# Altium footprint library transistor-power.PCBLIB: 89 footprints (part 2 of 6)
Each footprint in its own frame and in the unit in brackets; x right, y up, seen from the top. Pads: shape width x height; smd on the part's side, far side on the other; paste and mask are expansions set on the pad; w line width, h text height; cw(c..) or ccw(c..) is an arc to the next point about the centre after c.
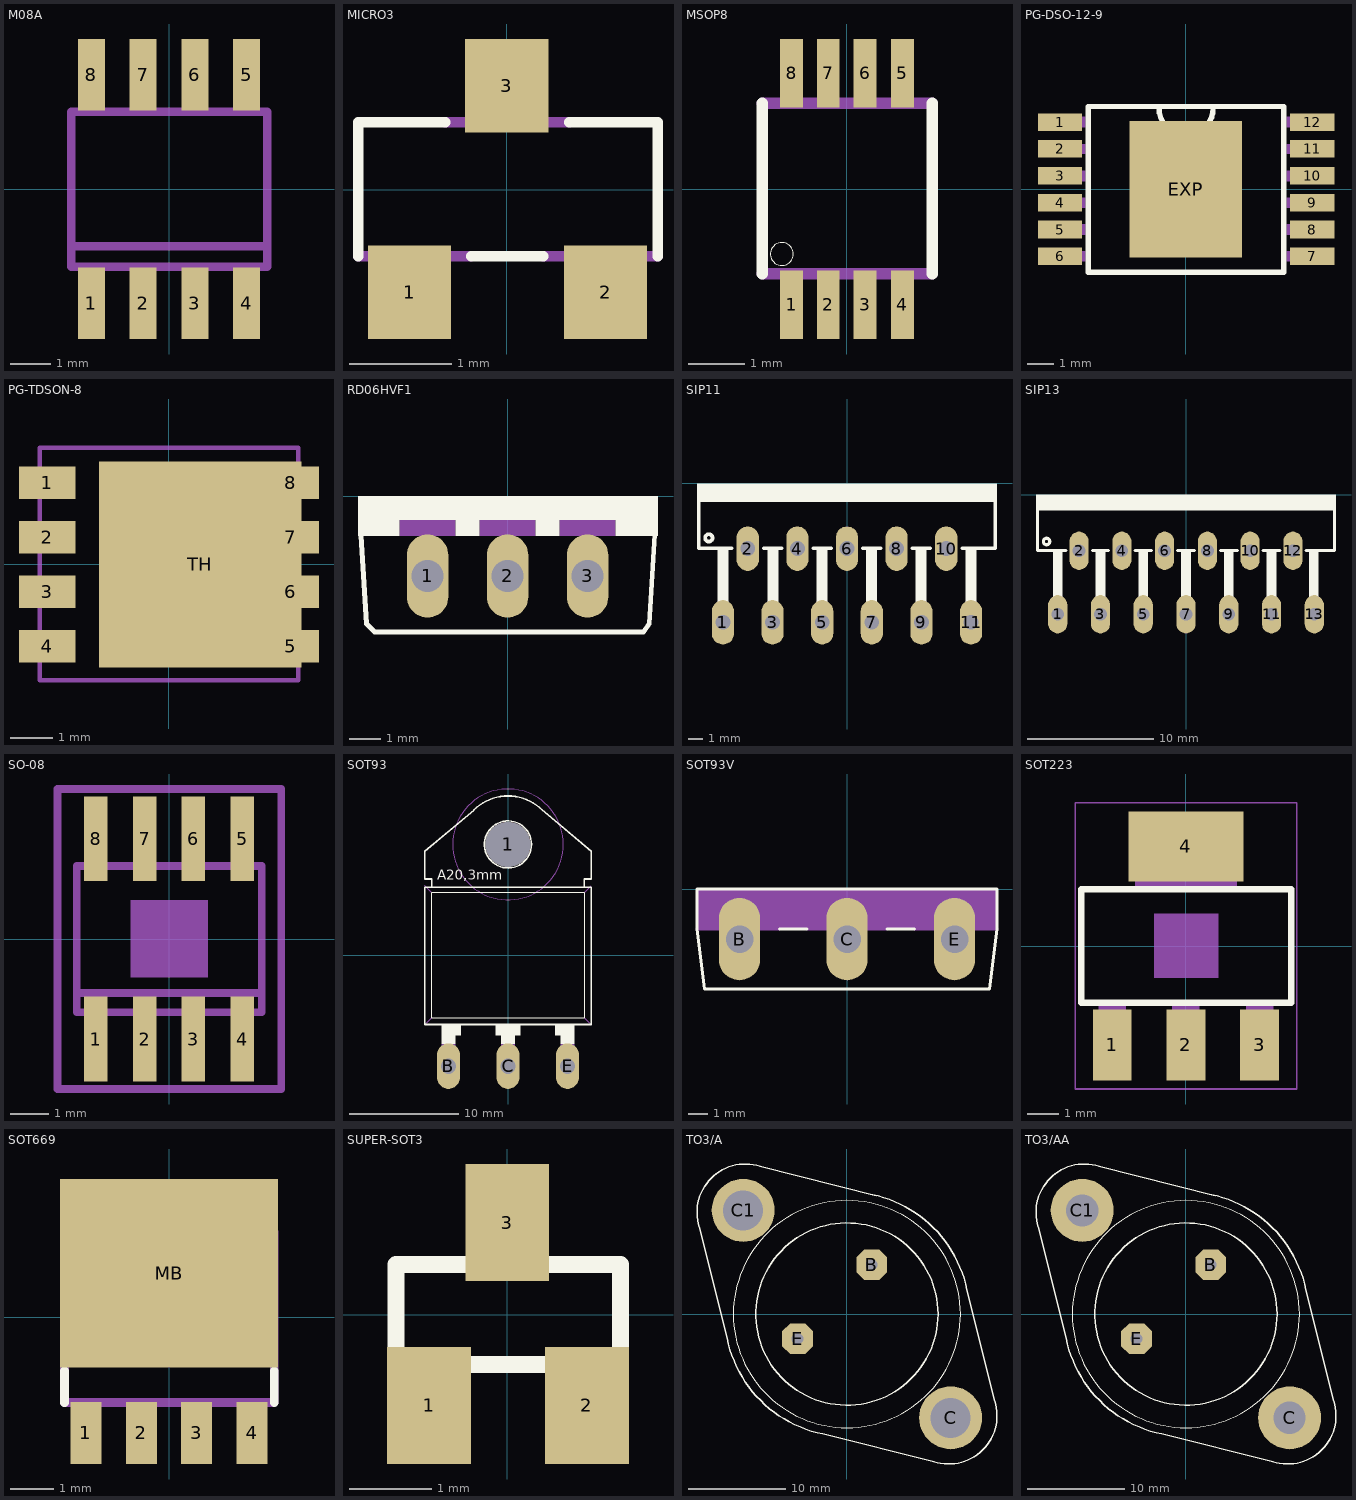
[diagram p1: the footprints below, top view; thin cyan lines are the x and y axes]

## M08A [mil]
pads (8):
  rect 26x69 smd: 1(-75,-110.24) 2(-25,-110.24) 3(25,-110.24) 4(75,-110.24) 5(75,111) 6(25,111) 7(-25,111) 8(-75,111)
Mechanical 16:
  rectangle: -84.65,-122.05 -65.35,-78.74
  rectangle: -34.65,-122.05 -15.35,-78.74
  rectangle: 16,-122.05 35,-78.74
  rectangle: 66,-122.05 85,-78.74
  rectangle: 66,79 85,123
  rectangle: 16,79 35,123
  rectangle: -34.65,79 -15.35,123
  rectangle: -84.65,79 -65.35,123
  lines w8: -94.49,-55.12 -94.49,-74.8 95,-74.8 95,-55.12 ; -94.49,-55.12 -94.49,75 95,75 95,-55.12 ; -94.49,-55.12 95,-55.12

## MICRO3 [mil]
pads (3):
  rect 32x36 smd: 1(-37.4,-39.37) 2(38,-39.37) 3(0,40)
Top Overlay:
  lines w4: -57.09,-25.59 -57.09,26 -23.62,26 ; -13.78,-25.59 14,-25.59 ; 24,26 58,26 58,-25.59
Mechanical 16:
  rectangle: -10.63,26 11,50
  rectangle: -48.03,-49.21 -26.77,-25.59
  rectangle: 27,-49.21 49,-25.2
  lines w4: -57.09,-25.59 -13.78,-25.59 ; -23.62,26 24,26 ; 14,-25.59 58,-25.59

## MSOP8 [mil]
pads (8):
  rect 16x48 smd: 1(-38.39,-80.71) 2(-12.8,-80.71) 3(13,-80.71) 4(39,-80.71) 5(39,81) 6(13,81) 7(-12.8,81) 8(-38.39,81)
Top Overlay:
  circle w0: c-45.28,-45.28 r8
  lines w8: -59.06,-59.06 -59.06,60 ; 60,-59.06 60,60
Mechanical 16:
  rectangle: -44.29,-96.46 -32.48,-61.02
  rectangle: -18.7,-96.46 -6.89,-61.02
  rectangle: 7,-96.46 19,-61.02
  rectangle: 33,-96.46 45,-61.02
  rectangle: 33,62 45,97
  rectangle: 7,62 19,97
  rectangle: -18.7,62 -6.89,97
  rectangle: -44.29,62 -32.48,97
  lines w8: -59.06,-59.06 60,-59.06 ; -59.06,60 60,60

## PG-DSO-12-9 [mil]
pads (13):
  rect 65x26 smd: 1(-185.04,99) 2(-185.04,60) 3(-185.04,20) 4(-185.04,-19.68) 5(-185.04,-59.06) 6(-185.04,-98.43) 7(186,-98.43) 8(186,-59.06) 9(186,-19.68) 10(186,20) 11(186,60) 12(186,99)
  rect 166x201 smd: EXP(0,0)
Top Layer:
  region: 0,0 10,0 10,10 0,10
Top Overlay:
  lines w8: -39.37,119 ccw(c0.32,119) 40,119 ; -143.64,-121.98 144,-121.98 144,122 -143.64,122 -143.64,-121.98
Bottom Paste:
  rectangle: -70.87,-86.61 71,87
  rectangle: -23.62,87 24,146
  rectangle: -23.62,-145.67 24,-86.61
Top Solder:
  rectangle: -86.61,-104.33 87,105
  rectangle: -35.43,-157.48 36,158
  rectangle: -220.47,83 -149.61,115
  rectangle: -220.47,44 -149.61,75
  rectangle: -220.47,4 -149.61,36
  rectangle: -220.47,-35.43 -149.61,-3.94
  rectangle: -220.47,-74.8 -149.61,-43.31
  rectangle: -220.47,-114.17 -149.61,-82.68
  region: 221,-82.68 150,-82.68 150,-114.17 221,-114.17
  region: 221,-43.31 150,-43.31 150,-74.8 221,-74.8
  region: 221,-3.94 150,-3.94 150,-35.43 221,-35.43
  region: 221,36 150,36 150,4 221,4
  region: 221,75 150,75 150,44 221,44
  region: 221,115 150,115 150,83 221,83
Mechanical 16:
  rectangle: -202.76,91 -147.64,107
  rectangle: -202.76,52 -147.64,67
  rectangle: -202.76,12 -147.64,28
  rectangle: -202.76,-27.56 -147.64,-11.81
  rectangle: -202.76,-66.93 -147.64,-51.18
  rectangle: -202.76,-106.3 -147.64,-90.55
  rectangle: 148,-106.3 203,-90.55
  rectangle: 148,-66.93 203,-51.18
  rectangle: 148,-27.56 203,-11.81
  rectangle: 148,12 203,28
  rectangle: 148,52 203,67
  rectangle: 148,91 203,107

## PG-TDSON-8 [mil]
pads (9):
  rect 52x30 smd: 1(-111.22,75) 2(-111.22,25) 3(-111.22,-25) 4(-111.22,-75) 5(112,-75) 6(112,-25) 7(112,25) 8(112,75)
  rect 186x189 smd: TH(29,0)
Top Paste:
  region: 70,-50 35,-50 35,-85 70,-85
  region: 25,-50 -10,-50 -10,-85 25,-85
  region: -20,-50 -55,-50 -55,-85 -20,-85
  region: -20,-5 -55,-5 -55,-40 -20,-40
  region: -20,40 -55,40 -55,5 -20,5
  region: -20,85 -55,85 -55,50 -20,50
  region: 25,-5 -10,-5 -10,-40 25,-40
  region: 25,40 -10,40 -10,5 25,5
  region: 25,85 -10,85 -10,50 25,50
  region: 70,-5 35,-5 35,-40 70,-40
  region: 70,40 35,40 35,5 70,5
  region: 70,85 35,85 35,50 70,50
Mechanical 16:
  rectangle: -125,65 -118.11,85
  rectangle: -125,15 -118.11,35
  rectangle: -125,-35 -118.11,-15
  rectangle: -125,-85 -118.11,-65
  region: 125,-65 119,-65 119,-85 125,-85
  region: 125,-15 119,-15 119,-35 125,-35
  region: 125,35 119,35 119,15 125,15
  region: 125,85 119,85 119,65 125,65
  lines w4: -118.11,-106.3 119,-106.3 119,107 -118.11,107 -118.11,-106.3

## RD06HVF1 [mil]
pads (3):
  oval 52x104 hole 40: 1(-100,-100) 2(0,-100) 3(100,-100)
Top Overlay:
  rectangle: -187.01,-30 188,0
  rectangle: -187.01,-50 -135,-30
  rectangle: -65,-50 -35,-30
  rectangle: 35,-50 65,-30
  rectangle: 135,-50 188,-30
  lines w6: -183.27,-48.94 -176.3,-160 -166.3,-170 170,-170 177,-160 184,-47.95
Mechanical 16:
  rectangle: -135,-50 -65,-30
  rectangle: -35,-50 35,-30
  rectangle: 65,-50 135,-30

## SIP11 [mil]
pads (11):
  oval 60x120 hole 40: 1(-335,-375) 2(-268,-176) 3(-201,-375) 4(-134,-176) 5(-67,-375) 6(0,-176) 7(67,-375) 8(134,-176) 9(201,-375) 10(268,-176) 11(335,-375)
Top Overlay:
  circle w10: c-373,-147 r10
  rectangle: -405,-50 405,0
  rectangle: -350,-335 -320,-175
  rectangle: -215,-335 -185,-175
  rectangle: -82,-335 -52,-175
  rectangle: 51,-335 81,-175
  rectangle: 185,-335 215,-175
  rectangle: 320,-335 350,-175
  lines w10: -400,-50 -400,-175 -311,-175 ; -225,-175 -177,-175 ; -91,-175 -43,-175 ; 43,-175 91,-175 ; 177,-175 225,-175 ; 311,-175 400,-175 400,-50

## SIP13 [mil]
pads (13):
  oval 60x120 hole 40: 1(-402,-375) 2(-335,-176) 3(-268,-375) 4(-201,-176) 5(-134,-375) 6(-67,-176) 7(0,-375) 8(67,-176) 9(134,-375) 10(201,-176) 11(268,-375) 12(335,-176) 13(402,-375)
Top Overlay:
  circle w10: c-437,-147 r10
  rectangle: -470,-50 470,0
  rectangle: -417,-335 -387,-175
  rectangle: -283,-335 -253,-175
  rectangle: -149,-335 -119,-175
  rectangle: -15,-335 15,-175
  rectangle: 119,-335 149,-175
  rectangle: 253,-335 283,-175
  rectangle: 385,-335 415,-175
  lines w10: -465,-50 -465,-175 -377,-175 ; -293,-175 -243,-175 ; -160,-175 -108,-175 ; -26,-175 26,-175 ; 108,-175 161,-175 ; 242,-175 294,-175 ; 376,-175 465,-175 465,-50

## SO-08 [mil]
pads (8):
  rect 24x87 smd: 1(-75,-102.36) 2(-25,-102.36) 3(25,-102.36) 4(75,-102.36) 5(75,103) 6(25,103) 7(-25,103) 8(-75,103)
Mechanical 6:
  rectangle: -39.37,-39.37 40,40
Mechanical 13:
  text "IPC SO8" at -75,-25 h24.8
  text "JEDEC MS-012 AA" at -75,15 h18.6
Mechanical 16:
  rectangle: -84.65,-122.05 -65.35,-78.74
  rectangle: -34.65,-122.05 -15.35,-78.74
  rectangle: 16,-122.05 35,-78.74
  rectangle: 66,-122.05 85,-78.74
  rectangle: 66,79 85,123
  rectangle: 16,79 35,123
  rectangle: -34.65,79 -15.35,123
  rectangle: -84.65,79 -65.35,123
  lines w8: -94.49,-55.12 -94.49,-74.8 95,-74.8 95,-55.12 ; -94.49,-55.12 -94.49,75 95,75 95,-55.12 ; -94.49,-55.12 95,-55.12
Mechanical 27:
  lines w8: -114.17,-153.54 115,-153.54 115,154 -114.17,154 -114.17,-153.54

## SOT93 [mil]
pads (4):
  round 162 hole 162: 1(0,400)
  oval 82.5x165 hole 55: B(-215,-400) C(0,-400) E(215,-400)
Top Overlay:
  circle w6: c0,400 r85
  rectangle: -240,-290 -170,-250
  rectangle: 170,-290 240,-250
  rectangle: -45,-290 45,-250
  rectangle: -240,-320 -190,-250
  rectangle: -25,-320 25,-250
  rectangle: 190,-320 240,-250
  lines w2: -275,-225 275,-225 275,225 -275,225 -275,-225
  lines w6: -123.74,524 cw(c-0.31,400.13) 0,575 cw(c0.44,399.82) 124,524 ; -123,524 -300,375 -300,275 -275,275 -275,245 ; 123,525 300,375 300,275 275,275 275,245 ; -275,245 -300,245 -300,-250 300,-250 300,245 275,245 ; -275,245 275,245
  text "A20,3mm" at -255,260 h62
Mechanical 9:
  circle w0: c0,400 r200
Mechanical 10:
  circle w0: c0,400 r200
Mechanical 16:
  rectangle: -240,-405 -190,-320
  rectangle: -25,-405 25,-320
  rectangle: 190,-405 240,-320
  lines w2: -300,-250 -275,-225 ; -300,250 -275,225 ; 275,-225 300,-250 ; 275,225 300,250

## SOT93V [mil]
pads (3):
  oval 82.5x165 hole 55: B(-215,-100) C(0,-100) E(215,-100)
Top Overlay:
  lines w6: -135,-80 -80,-80 ; 80,-80 135,-80 ; -300,-80 -300,0 300,0 300,-80 285,-200 -285,-200 -300,-80
Mechanical 16:
  rectangle: -300,-80 300,0
  lines w6: -300,-80 -135,-80 ; -80,-80 80,-80 ; 135,-80 300,-80

## SOT223 [mil]
pads (4):
  rect 48x88 smd: 1(-90.98,-122.01) 2(0,-122.01) 3(91,-122.01)
  rect 142x87 smd: 4(0,123)
Top Overlay:
  lines w8: -129.02,-70 130,-70 130,70 -129.02,70 -129.02,-70
Mechanical 6:
  rectangle: -39.37,-39.37 40,40
Mechanical 16:
  rectangle: -63,71 63,144
  rectangle: -17,-144 17,-71
  rectangle: -108,-144 -74,-71
  rectangle: 74,-144 108,-71
  rectangle: -63,71 63,144
  rectangle: -17,-144 17,-71
  rectangle: -108,-144 -74,-71
  rectangle: 74,-144 108,-71
Mechanical 27:
  lines w2: -136.73,-176.5 137,-176.5 137,177 -136.73,177 -136.73,-176.5

## SOT669 [mil]
pads (5):
  rect 28x56 smd: 1(-75,-104.33) 2(-25,-104.33) 3(25,-104.33) 4(75,-104.33)
  rect 197x170 smd: MB(0,40)
Top Overlay:
  lines w8: -94.49,-76.77 -94.49,-48.23 ; 95,-76.77 95,-48.23
Top Paste:
  rectangle: -94.49,81 96,123
  rectangle: -62.01,-40.35 63,82
Mechanical 16:
  circle w8: c-63.98,0 r13
  rectangle: -84.84,-122.05 -65.16,-80.71
  rectangle: -86.81,-110.24 -63.19,-85.63
  rectangle: -34.84,-122.05 -15.16,-80.71
  rectangle: -36.81,-110.24 -13.19,-85.63
  rectangle: 16,-122.05 35,-80.71
  rectangle: 14,-110.24 37,-85.63
  rectangle: 66,-122.05 85,-80.71
  rectangle: 64,-110.24 87,-85.63
  region: 0,0 10,0 10,10 0,10
  lines w8: -94.49,-76.77 95,-76.77 95,77 -94.49,77 -94.49,-76.77

## SUPER-SOT3 [mil]
pads (3):
  rect 40x56 smd: 1(-37.4,-43.31) 2(38,-43.31) 3(0,44)
Top Overlay:
  lines w8: -53.23,-23.74 54,-23.74 54,24 -53.23,24 -53.23,-23.74
Mechanical 16:
  rectangle: -46.26,-49.21 -26.57,-25.72
  rectangle: 27,-49.21 47,-25.72
  region: 9,50 -9.84,50 -9.84,26 9,26

## TO3/A [mil]
pads (4):
  oct 124x124 hole 47: B(100,200) E(-200,-100)
  round 255 hole 162: C(420,-420) C1(-420,420)
Top Overlay:
  circle w6: c0,0 r369
  circle w2: c0,0 r460
  lines w6: -598,354 -485,-98 ; -597.47,352 cw(c-412.59,412.36) -550,550 cw(c-411.47,412.32) -350.88,598 ; -485.36,-97.07 ccw(c0,0) -350,-350 ccw(c0,0) -97.07,-485.36 ; -354,598 118,480 ; -98,-485 354,-598 ; 104,484 cw(c0.12,0.49) 350,350 cw(c1.85,-0.59) 486,98 ; 351,-597.34 ccw(c412.05,-412.09) 550,-549.99 ccw(c412.26,-411.57) 598,-351.27 ; 485,98 598,-354
Mechanical 16:
  circle w6: c420,-420 r85
  circle w6: c-420,420 r85

## TO3/AA [mil]
pads (4):
  oct 124x124 hole 47: B(100,200) E(-200,-100)
  round 255 hole 130: C(420,-420) C1(-420,420)
Top Overlay:
  circle w6: c0,0 r369
  circle w2: c0,0 r460
  lines w6: -598,354 -485,-98 ; -597.47,352 cw(c-412.59,412.36) -550,550 cw(c-411.47,412.32) -350.88,598 ; -485.36,-97.07 ccw(c0,0) -350,-350 ccw(c0,0) -97.07,-485.36 ; -354,598 118,480 ; -98,-485 354,-598 ; 104,484 cw(c0.12,0.49) 350,350 cw(c1.85,-0.59) 486,98 ; 351,-597.34 ccw(c412.05,-412.09) 550,-549.99 ccw(c412.26,-411.57) 598,-351.27 ; 485,98 598,-354
Mechanical 16:
  circle w6: c420,-420 r85
  circle w6: c-420,420 r85